# Altium schematic symbol library SCH - MSP430 - TI MSP430G2x55.SchLib: 1 symbol
Pins are listed as number, name and electrical type; pins without a type are passive.

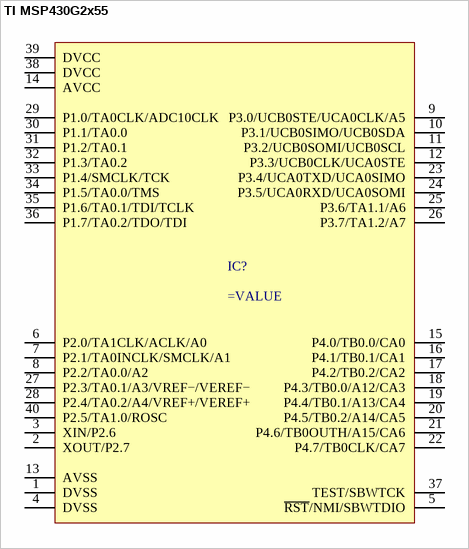
[diagram p0: symbol TI MSP430G2x55]

## TI MSP430G2x55
designator IC?
pins: 1 DVSS, 2 XOUT/P2.7, 3 XIN/P2.6, 4 DVSS, 5 ~{RST}/NMI/SBWTDIO, 6 P2.0/TA1CLK/ACLK/A0, 7 P2.1/TA0INCLK/SMCLK/A1, 8 P2.2/TA0.0/A2, 9 P3.0/UCB0STE/UCA0CLK/A5, 10 P3.1/UCB0SIMO/UCB0SDA, 11 P3.2/UCB0SOMI/UCB0SCL, 12 P3.3/UCB0CLK/UCA0STE, 13 AVSS, 14 AVCC, 15 P4.0/TB0.0/CA0, 16 P4.1/TB0.1/CA1, 17 P4.2/TB0.2/CA2, 18 P4.3/TB0.0/A12/CA3, 19 P4.4/TB0.1/A13/CA4, 20 P4.5/TB0.2/A14/CA5, 21 P4.6/TB0OUTH/A15/CA6, 22 P4.7/TB0CLK/CA7, 23 P3.4/UCA0TXD/UCA0SIMO, 24 P3.5/UCA0RXD/UCA0SOMI, 25 P3.6/TA1.1/A6, 26 P3.7/TA1.2/A7, 27 P2.3/TA0.1/A3/VREF−/VEREF−, 28 P2.4/TA0.2/A4/VREF+/VEREF+, 29 P1.0/TA0CLK/ADC10CLK, 30 P1.1/TA0.0, 31 P1.2/TA0.1, 32 P1.3/TA0.2, 33 P1.4/SMCLK/TCK, 34 P1.5/TA0.0/TMS, 35 P1.6/TA0.1/TDI/TCLK, 36 P1.7/TA0.2/TDO/TDI, 37 TEST/SBWTCK, 38 DVCC, 39 DVCC, 40 P2.5/TA1.0/ROSC